# EAGLE library part BMP280 (library BMP280)
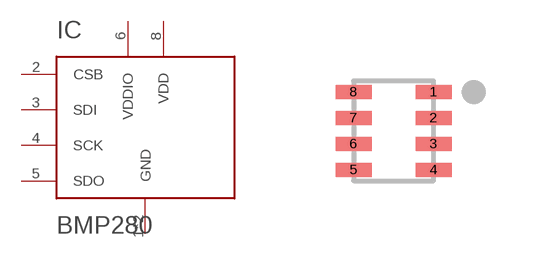
[diagram p0: symbol with the pads of LGA-8; footprint LGA-8]

Designator prefix IC

## BMP280  [LGA-8]
1  GND
2  CSB
3  SDI
4  SCK
5  SDO
6  VDDIO
7  GND
8  VDD

## Footprint LGA-8 (pad centres in mm)
Elongated pads for easier soldering
smd 0.9 x 0.35: 1 1,0.975; 2 1,0.325; 3 1,-0.325; 4 1,-0.975; 5 -1,-0.975; 6 -1,-0.325; 7 -1,0.325; 8 -1,0.975